# EAGLE library part PC16SL (library #PaJa_30)
Potenciometr - plastovy - stereo - 1k az 1M
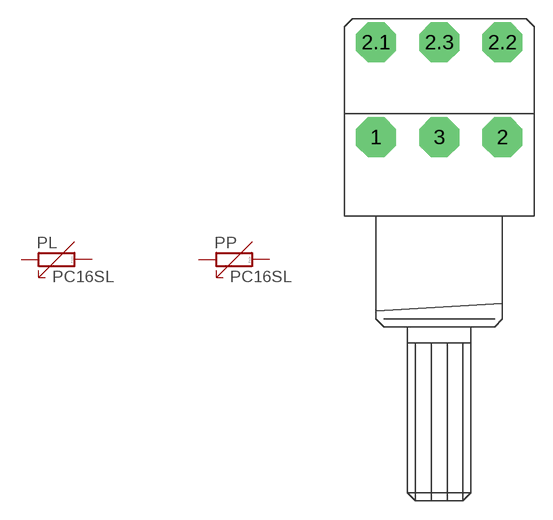
[diagram p2: symbol with the pads of PC16SL; footprint PC16SL]

Designator prefix P; gates L=POTENCIO P=POTENCIO

## PC16SL  [PC16SL]
1  L:1  pas
2  L:2  pas
2.1  P:1  pas
2.2  P:2  pas
2.3  P:3  pas
3  L:3  pas

## Footprint PC16SL (pad centres in mm)
drill 1.27 pad 3.2 octagon: 1 -5.08,0; 2 5.08,0; 2.1 -5.08,7.62; 2.2 5.08,7.62; 2.3 0,7.62; 3 0,0